# Altium integrated library DRV8313PWPR.IntLib: 1 symbol
Pins are listed as number, name and electrical type; pins without a type are passive.

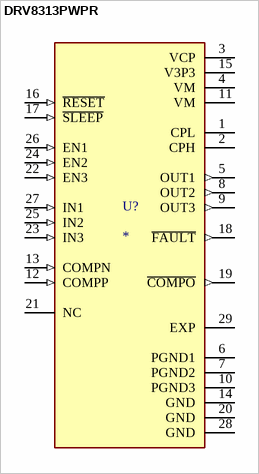
[diagram p0: symbol DRV8313PWPR]

## DRV8313PWPR
designator U?
65-V max, 3-A peak 3-phase motor driver; MF: Texas Instruments; MP: DRV8313PWPR; Package: HTSSOP-28 Texas Instruments; Price: None; Check_prices: https://www.snapeda.com/parts/DRV8313PWPR/Texas+Instruments/view-part/?ref=eda; Value: *; SnapEDA_Link: https://www.snapeda.com/parts/DRV8313PWPR/Texas+Instruments/view-part/?ref=snap; Availability: In Stock; Purchase-URL: https://pricing.snapeda.com/search?q=DRV8313PWPR&ref=eda
footprint SOP65P640X120-29N
pins: 1 CPL (power), 2 CPH (power), 3 VCP (power), 4 VM (power), 5 OUT1 (out), 6 PGND1 (power), 7 PGND2 (power), 8 OUT2 (out), 9 OUT3 (out), 10 PGND3 (power), 11 VM (power), 12 COMPP (in), 13 COMPN (in), 14 GND (power), 15 V3P3 (power), 16 ~{RESET} (in), 17 ~{SLEEP} (in), 18 ~{FAULT} (out), 19 ~{COMPO} (out), 20 GND (power), 21 NC, 22 EN3 (in), 23 IN3 (in), 24 EN2 (in), 25 IN2 (in), 26 EN1 (in), 27 IN1 (in), 28 GND (power), 29 EXP (power)